# EAGLE library part DRA_BREAKOUT (library Custom Library)
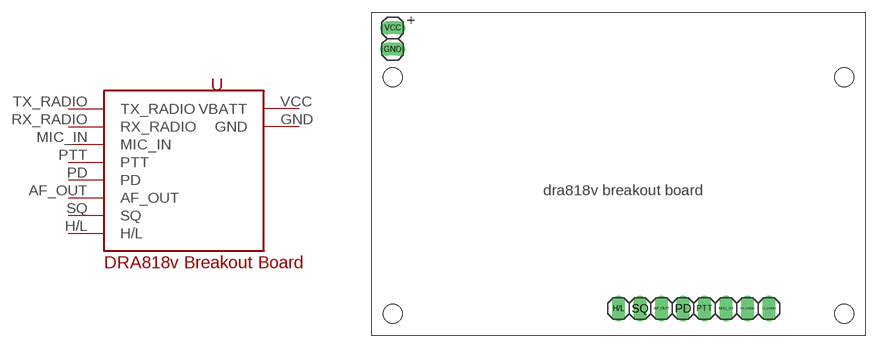
[diagram p6: symbol with the pads of DRA_BREAKOUT; footprint DRA_BREAKOUT]

Designator prefix -

## DRA_BREAKOUT  [DRA_BREAKOUT]
AF_OUT  AF_OUT
GND  GND  pwr
H/L  H/L
MIC_IN  MIC_IN
PD  PD
PTT  PTT
RX_RADIO  RX_RADIO
SQ  SQ
TX_RADIO  TX_RADIO
VCC  VBATT  pwr

## Footprint DRA_BREAKOUT (pad centres in mm)
drill 1.016 long: AF_OUT 34.29,3.175; GND 2.54,33.782; H/L 29.21,3.175; MIC_IN 41.91,3.175; PD 36.83,3.175; PTT 39.37,3.175; RX_RADIO 44.45,3.175; SQ 31.75,3.175; TX_RADIO 46.99,3.175; VCC 2.54,36.322
hole 2.21 at 55.88,30.48
hole 2.21 at 55.88,2.54
hole 2.21 at 2.54,2.54
hole 2.21 at 2.54,30.48